# Altium schematic symbol library NUP4004M5.SchLib: 1 symbol
Pins are listed as number, name and electrical type; pins without a type are passive.

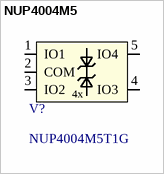
[diagram p0: symbol NUP4004M5]

## NUP4004M5
designator V?, comment NUP4004M5T1G
Quad Bi-Directional TVS protection array; value: NUP4004M5T1G
footprint ZSOT23_5
pins: 1 IO1 (power), 2 COM (power), 3 IO2 (power), 4 IO3 (power), 5 IO4 (power)
text: 4x